# Altium footprint library 768290106.PcbLib: 1 footprints
Each footprint in its own frame and in the unit in brackets; x right, y up, seen from the top. Pads: shape width x height; smd on the part's side, far side on the other; paste and mask are expansions set on the pad; w line width, h text height; cw(c..) or ccw(c..) is an arc to the next point about the centre after c.
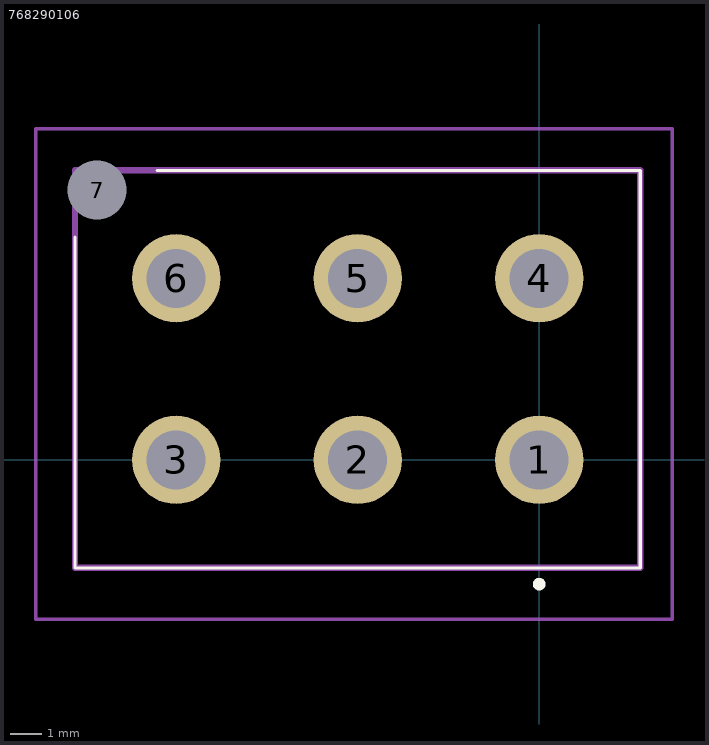
[diagram p0: the footprint, top view; thin cyan lines are the x and y axes]

## 768290106 [mm]
pads (7):
  round 2.775 hole 1.85: 1(0,0) 2(-5.7,0) 3(-11.4,0) 4(0,5.7) 5(-5.7,5.7) 6(-11.4,5.7)
  round 0.925 hole 1.85 unplated: 7(-13.88,8.47)
Top Overlay:
  lines w0.1: -14.575,7 -14.575,-3.39 3.175,-3.39 3.175,9.09 -12,9.09
  lines w0.2: -0.1,-3.9 -0.1,-3.9 ; -0.1,-3.9 cw(c0,-3.9) 0.1,-3.9 ; -0.1,-3.9 ccw(c0,-3.9) 0.1,-3.9 ; 0.1,-3.9 0.1,-3.9
Mechanical 15:
  lines w0.2: -14.575,-3.39 3.175,-3.39 3.175,9.09 -14.575,9.09 -14.575,-3.39
Mechanical 20:
  lines w0.1: -15.805,-5 4.175,-5 4.175,10.395 -15.805,10.395 -15.805,-5